# Altium schematic symbol library tfp401a.SchLib: 1 symbol
Pins are listed as number, name and electrical type; pins without a type are passive.

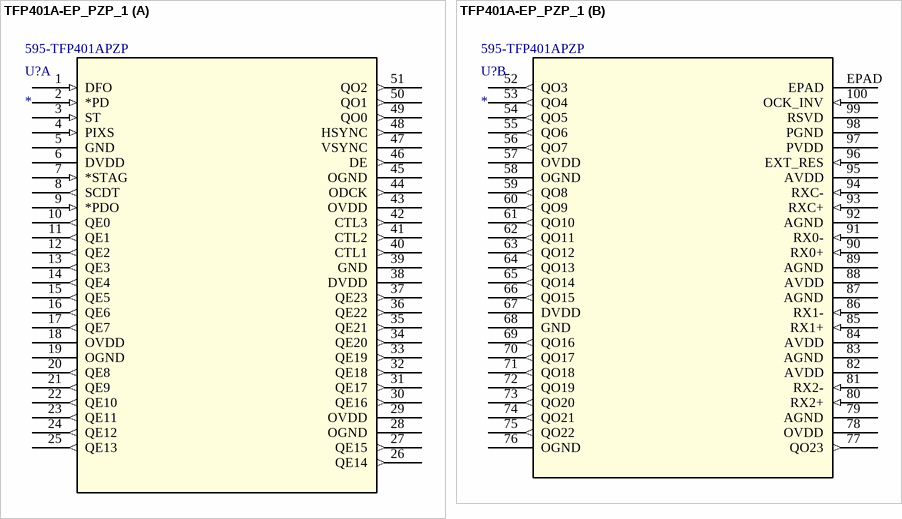
[diagram p0: symbol TFP401A-EP_PZP_1]

## TFP401A-EP_PZP_1
designator U?  Supplier Part Number 1: 595-TFP401APZP
Imported; Manufacturer: Texas Instruments; GENERIC_PART_NUMBER: TFP401A-EP; Manufacturer_Part_Number: tfp401a-ep_pzp_100; INDUSTRY_STD_PKG_TYPE: HTQFP; FAMILY_NAME: PANELBUS (DVI); PIN_COUNT: 100; PACKAGE_DESIGNATOR: PZP; Datasheet_URL: http://www.ti.com/lit/gpn/TFP401A-EP; Vendor: Texas Instruments; Value: Value; Type: Type; RefDes: RefDes; Supplier 1: Mouser
footprint PZP100_5P2X5P2
part A pins: 1 DFO (in), 2 *PD (in), 3 ST (in), 4 PIXS (in), 5 GND (power), 6 DVDD (power), 7 *STAG (in), 8 SCDT (out), 9 *PDO (in), 10 QE0 (out), 11 QE1 (out), 12 QE2 (out), 13 QE3 (out), 14 QE4 (out), 15 QE5 (out), 16 QE6 (out), 17 QE7 (out), 18 OVDD (power), 19 OGND (power), 20 QE8 (out), 21 QE9 (out), 22 QE10 (out), 23 QE11 (out), 24 QE12 (out), 25 QE13 (out), 26 QE14 (out), 27 QE15 (out), 28 OGND (power), 29 OVDD (power), 30 QE16 (out), 31 QE17 (out), 32 QE18 (out), 33 QE19 (out), 34 QE20 (out), 35 QE21 (out), 36 QE22 (out), 37 QE23 (out), 38 DVDD (power), 39 GND (power), 40 CTL1 (out), 41 CTL2 (out), 42 CTL3 (out), 43 OVDD (power), 44 ODCK (out), 45 OGND (power), 46 DE (out), 47 VSYNC (power), 48 HSYNC (out), 49 QO0 (out), 50 QO1 (out), 51 QO2 (out)
part B pins: 52 QO3 (out), 53 QO4 (out), 54 QO5 (out), 55 QO6 (out), 56 QO7 (out), 57 OVDD (power), 58 OGND (power), 59 QO8 (out), 60 QO9 (out), 61 QO10 (out), 62 QO11 (out), 63 QO12 (out), 64 QO13 (out), 65 QO14 (out), 66 QO15 (out), 67 DVDD (power), 68 GND (power), 69 QO16 (out), 70 QO17 (out), 71 QO18 (out), 72 QO19 (out), 73 QO20 (out), 74 QO21 (out), 75 QO22 (out), 76 OGND (power), 77 QO23 (out), 78 OVDD (power), 79 AGND (power), 80 RX2+ (in), 81 RX2- (in), 82 AVDD (power), 83 AGND (power), 84 AVDD (power), 85 RX1+ (in), 86 RX1- (in), 87 AGND (power), 88 AVDD (power), 89 AGND (power), 90 RX0+ (in), 91 RX0- (in), 92 AGND (power), 93 RXC+ (in), 94 RXC- (in), 95 AVDD (power), 96 EXT_RES (in), 97 PVDD (power), 98 PGND (power), 99 RSVD, 100 OCK_INV (in), EPAD